# Altium footprint library Wei_PcbLib1.PcbLib: 49 footprints (part 1 of 4)
Each footprint in its own frame and in the unit in brackets; x right, y up, seen from the top. Pads: shape width x height; smd on the part's side, far side on the other; paste and mask are expansions set on the pad; w line width, h text height; cw(c..) or ccw(c..) is an arc to the next point about the centre after c.
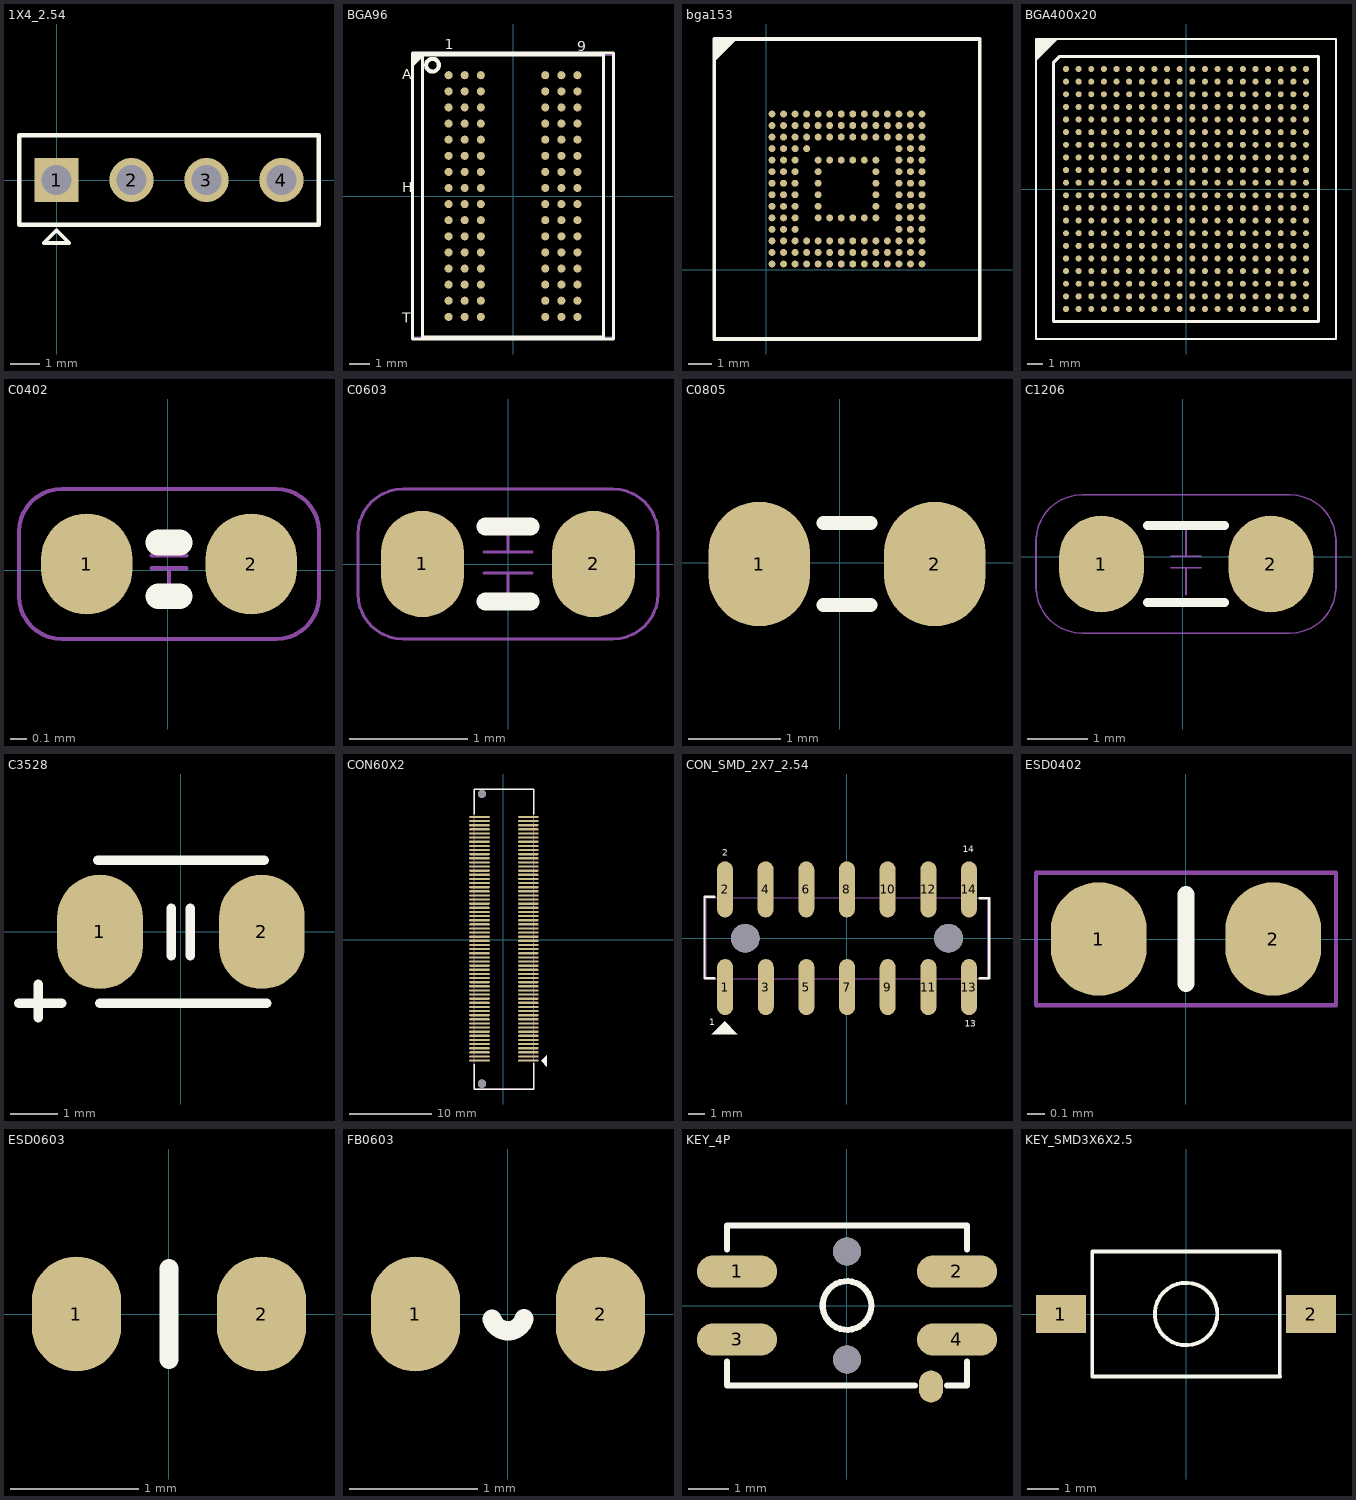
[diagram p0: the footprints below, top view; thin cyan lines are the x and y axes]

## 1X4_2.54 [mm]
pads (4):
  rect 1.5x1.5 hole 1: 1(0,0)
  round 1.5 hole 1: 2(2.54,0) 3(5.08,0) 4(7.62,0)
Top Overlay:
  lines w0.127: -0.432,-2.134 0.432,-2.134 0,-1.702 -0.432,-2.134
  lines w0.152: -1.27,-1.524 8.89,-1.524 8.89,1.524 -1.27,1.524 -1.27,-1.524

## BGA96 [mm]
pads (96):
  round 0.4 smd: A1(-3.2,6) A2(-2.4,6) A3(-1.6,6) A7(1.6,6) A8(2.4,6) A9(3.2,6) B1(-3.2,5.2) B2(-2.4,5.2) B3(-1.6,5.2) B7(1.6,5.2) B8(2.4,5.2) B9(3.2,5.2) C1(-3.2,4.4) C2(-2.4,4.4) C3(-1.6,4.4) C7(1.6,4.4) C8(2.4,4.4) C9(3.2,4.4) D1(-3.2,3.6) D2(-2.4,3.6) D3(-1.6,3.6) D7(1.6,3.6) D8(2.4,3.6) D9(3.2,3.6) E1(-3.2,2.8) E2(-2.4,2.8) E3(-1.6,2.8) E7(1.6,2.8) E8(2.4,2.8) E9(3.2,2.8) F1(-3.2,2) F2(-2.4,2) F3(-1.6,2) F7(1.6,2) F8(2.4,2) F9(3.2,2) G1(-3.2,1.2) G2(-2.4,1.2) G3(-1.6,1.2) G7(1.6,1.2) G8(2.4,1.2) G9(3.2,1.2) H1(-3.2,0.4) H2(-2.4,0.4) H3(-1.6,0.4) H7(1.6,0.4) H8(2.4,0.4) H9(3.2,0.4) J1(-3.2,-0.4) J2(-2.4,-0.4) J3(-1.6,-0.4) J7(1.6,-0.4) J8(2.4,-0.4) J9(3.2,-0.4) K1(-3.2,-1.2) K2(-2.4,-1.2) K3(-1.6,-1.2) K7(1.6,-1.2) K8(2.4,-1.2) K9(3.2,-1.2) L1(-3.2,-2) L2(-2.4,-2) L3(-1.6,-2) L7(1.6,-2) L8(2.4,-2) L9(3.2,-2) M1(-3.2,-2.8) M2(-2.4,-2.8) M3(-1.6,-2.8) M7(1.6,-2.8) M8(2.4,-2.8) M9(3.2,-2.8) N1(-3.2,-3.6) N2(-2.4,-3.6) N3(-1.6,-3.6) N7(1.6,-3.6) N8(2.4,-3.6) N9(3.2,-3.6) P1(-3.2,-4.4) P2(-2.4,-4.4) P3(-1.6,-4.4) P7(1.6,-4.4) P8(2.4,-4.4) P9(3.2,-4.4) R1(-3.2,-5.2) R2(-2.4,-5.2) R3(-1.6,-5.2) R7(1.6,-5.2) R8(2.4,-5.2) R9(3.2,-5.2) T1(-3.2,-6) T2(-2.4,-6) T3(-1.6,-6) T7(1.6,-6) T8(2.4,-6) T9(3.2,-6)
Top Overlay:
  circle w0.203: c-4,6.5 r0.316
  region: -5,7.1 -4.3,7.1 -5,6.4
  lines w0.152: -5,-7.1 -5,7.1 5,7.1 5,-7.1 -5,-7.1 ; -4.5,-7 -4.5,7 4.5,7 4.5,-7 -4.5,-7
  text "A" at -5.5,5.8 h0.5
  text "1" at -3.4,7.3 h0.5
  text "9" at 3.2,7.2 h0.5
  text "T" at -5.5,-6.3 h0.5
  text "H" at -5.5,0.2 h0.5
Mechanical 6:
  text "D9" at 2.96,3.6 h0.3
  text "D8" at 2.16,3.6 h0.3
  text "D7" at 1.36,3.6 h0.3
  text "D3" at -1.84,3.6 h0.3
  text "D2" at -2.64,3.6 h0.3
  text "A2" at -2.64,6 h0.3
  text "D1" at -3.44,3.6 h0.3
  text "C9" at 2.96,4.4 h0.3
  text "C8" at 2.16,4.4 h0.3
  text "C7" at 1.36,4.4 h0.3
  text "C3" at -1.84,4.4 h0.3
  text "C2" at -2.64,4.4 h0.3
  text "C1" at -3.44,4.4 h0.3
  text "B9" at 2.96,5.2 h0.3
  text "B8" at 2.16,5.2 h0.3
  text "B7" at 1.36,5.2 h0.3
  text "A1" at -3.44,6 h0.3
  text "T9" at 2.96,-6 h0.3
  text "T8" at 2.16,-6 h0.3
  text "T7" at 1.36,-6 h0.3
  text "T3" at -1.84,-6 h0.3
  text "T2" at -2.64,-6 h0.3
  text "T1" at -3.44,-6 h0.3
  text "R9" at 2.96,-5.2 h0.3
  text "B3" at -1.84,5.2 h0.3
  text "R8" at 2.16,-5.2 h0.3
  text "R7" at 1.36,-5.2 h0.3
  text "R3" at -1.84,-5.2 h0.3
  text "R2" at -2.64,-5.2 h0.3
  text "R1" at -3.44,-5.2 h0.3
  text "P9" at 2.96,-4.4 h0.3
  text "P8" at 2.16,-4.4 h0.3
  text "P7" at 1.36,-4.4 h0.3
  text "P3" at -1.84,-4.4 h0.3
  text "P2" at -2.64,-4.4 h0.3
  text "B2" at -2.64,5.2 h0.3
  text "P1" at -3.44,-4.4 h0.3
  text "N9" at 2.96,-3.6 h0.3
  text "N8" at 2.16,-3.6 h0.3
  text "N7" at 1.36,-3.6 h0.3
  text "N3" at -1.84,-3.6 h0.3
  text "N2" at -2.64,-3.6 h0.3
  text "N1" at -3.44,-3.6 h0.3
  text "M9" at 2.96,-2.8 h0.3
  text "M8" at 2.16,-2.8 h0.3
  text "M7" at 1.36,-2.8 h0.3
  text "B1" at -3.44,5.2 h0.3
  text "M3" at -1.84,-2.8 h0.3
  text "M2" at -2.64,-2.8 h0.3
  text "M1" at -3.44,-2.8 h0.3
  text "L9" at 2.96,-2 h0.3
  text "L8" at 2.16,-2 h0.3
  text "L7" at 1.36,-2 h0.3
  text "L3" at -1.84,-2 h0.3
  text "L2" at -2.64,-2 h0.3
  text "L1" at -3.44,-2 h0.3
  text "K9" at 2.96,-1.2 h0.3
  text "A9" at 2.96,6 h0.3
  text "K8" at 2.16,-1.2 h0.3
  text "K7" at 1.36,-1.2 h0.3
  text "K3" at -1.84,-1.2 h0.3
  text "K2" at -2.64,-1.2 h0.3
  text "K1" at -3.44,-1.2 h0.3
  text "J9" at 2.96,-0.4 h0.3
  text "J8" at 2.16,-0.4 h0.3
  text "J7" at 1.36,-0.4 h0.3
  text "J3" at -1.84,-0.4 h0.3
  text "J2" at -2.64,-0.4 h0.3
  text "A8" at 2.16,6 h0.3
  text "J1" at -3.44,-0.4 h0.3
  text "H9" at 2.96,0.4 h0.3
  text "H8" at 2.16,0.4 h0.3
  text "H7" at 1.36,0.4 h0.3
  text "H3" at -1.84,0.4 h0.3
  text "H2" at -2.64,0.4 h0.3
  text "H1" at -3.44,0.4 h0.3
  text "G9" at 2.96,1.2 h0.3
  text "G8" at 2.16,1.2 h0.3
  text "G7" at 1.36,1.2 h0.3
  text "A7" at 1.36,6 h0.3
  text "G3" at -1.84,1.2 h0.3
  text "G2" at -2.64,1.2 h0.3
  text "G1" at -3.44,1.2 h0.3
  text "F9" at 2.96,2 h0.3
  text "F8" at 2.16,2 h0.3
  text "F7" at 1.36,2 h0.3
  text "F3" at -1.84,2 h0.3
  text "F2" at -2.64,2 h0.3
  text "F1" at -3.44,2 h0.3
  text "E9" at 2.96,2.8 h0.3
  text "A3" at -1.84,6 h0.3
  text "E8" at 2.16,2.8 h0.3
  text "E7" at 1.36,2.8 h0.3
  text "E3" at -1.84,2.8 h0.3
  text "E2" at -2.64,2.8 h0.3
  text "E1" at -3.44,2.8 h0.3
Mechanical 8:
  lines w0.025: -5,-7 -5,7 5,7 5,-7 -5,-7
  text "U*" at -0.916,0.2 h1.27

## bga153 [mm]
pads (153):
  round 0.3 smd mask+0.05: A1(0.25,6.75) A2(0.75,6.75) A3(1.25,6.75) A4(1.75,6.75) A5(2.25,6.75) A6(2.75,6.75) A7(3.25,6.75) A8(3.75,6.75) A9(4.25,6.75) A10(4.75,6.75) A11(5.25,6.75) A12(5.75,6.75) A13(6.25,6.75) A14(6.75,6.75) B1(0.25,6.25) B2(0.75,6.25) B3(1.25,6.25) B4(1.75,6.25) B5(2.25,6.25) B6(2.75,6.25) B7(3.25,6.25) B8(3.75,6.25) B9(4.25,6.25) B10(4.75,6.25) B11(5.25,6.25) B12(5.75,6.25) B13(6.25,6.25) B14(6.75,6.25) C1(0.25,5.75) C2(0.75,5.75) C3(1.25,5.75) C4(1.75,5.75) C5(2.25,5.75) C6(2.75,5.75) C7(3.25,5.75) C8(3.75,5.75) C9(4.25,5.75) C10(4.75,5.75) C11(5.25,5.75) C12(5.75,5.75) C13(6.25,5.75) C14(6.75,5.75) D1(0.25,5.25) D2(0.75,5.25) D3(1.25,5.25) D4(1.75,5.25) D12(5.75,5.25) D13(6.25,5.25) D14(6.75,5.25) E1(0.25,4.75) E2(0.75,4.75) E3(1.25,4.75) E5(2.25,4.75) E6(2.75,4.75) E7(3.25,4.75) E8(3.75,4.75) E9(4.25,4.75) E10(4.75,4.75) E12(5.75,4.75) E13(6.25,4.75) E14(6.75,4.75) F1(0.25,4.25) F2(0.75,4.25) F3(1.25,4.25) F5(2.25,4.25) F10(4.75,4.25) F12(5.75,4.25) F13(6.25,4.25) F14(6.75,4.25) G1(0.25,3.75) G2(0.75,3.75) G3(1.25,3.75) G5(2.25,3.75) G10(4.75,3.75) G12(5.75,3.75) G13(6.25,3.75) G14(6.75,3.75) H1(0.25,3.25) H2(0.75,3.25) H3(1.25,3.25) H5(2.25,3.25) H10(4.75,3.25) H12(5.75,3.25) H13(6.25,3.25) H14(6.75,3.25) J1(0.25,2.75) J2(0.75,2.75) J3(1.25,2.75) J5(2.25,2.75) J10(4.75,2.75) J12(5.75,2.75) J13(6.25,2.75) J14(6.75,2.75) K1(0.25,2.25) K2(0.75,2.25) K3(1.25,2.25) K5(2.25,2.25) K6(2.75,2.25) K7(3.25,2.25) K8(3.75,2.25) K9(4.25,2.25) K10(4.75,2.25) K12(5.75,2.25) K13(6.25,2.25) K14(6.75,2.25) L1(0.25,1.75) L2(0.75,1.75) L3(1.25,1.75) L12(5.75,1.75) L13(6.25,1.75) L14(6.75,1.75) M1(0.25,1.25) M2(0.75,1.25) M3(1.25,1.25) M4(1.75,1.25) M5(2.25,1.25) M6(2.75,1.25) M7(3.25,1.25) M8(3.75,1.25) M9(4.25,1.25) M10(4.75,1.25) M11(5.25,1.25) M12(5.75,1.25) M13(6.25,1.25) M14(6.75,1.25) N1(0.25,0.75) N2(0.75,0.75) N3(1.25,0.75) N4(1.75,0.75) N5(2.25,0.75) N6(2.75,0.75) N7(3.25,0.75) N8(3.75,0.75) N9(4.25,0.75) N10(4.75,0.75) N11(5.25,0.75) N12(5.75,0.75) N13(6.25,0.75) N14(6.75,0.75) P1(0.25,0.25) P2(0.75,0.25) P3(1.25,0.25) P4(1.75,0.25) P5(2.25,0.25) P6(2.75,0.25) P7(3.25,0.25) P8(3.75,0.25) P9(4.25,0.25) P10(4.75,0.25) P11(5.25,0.25) P12(5.75,0.25) P13(6.25,0.25) P14(6.75,0.25)
Top Overlay:
  region: -1.275,10 -2.25,9.025 -2.25,10
  lines w0.152: -2.25,-3 9.25,-3 9.25,10 -2.25,10 -2.25,-3

## BGA400x20 [mm]
pads (400):
  round 0.381 smd mask+0.05: A1(-7.6,7.6) A2(-6.8,7.6) A3(-6,7.6) A4(-5.2,7.6) A5(-4.4,7.6) A6(-3.6,7.6) A7(-2.8,7.6) A8(-2,7.6) A9(-1.2,7.6) A10(-0.4,7.6) A11(0.4,7.6) A12(1.2,7.6) A13(2,7.6) A14(2.8,7.6) A15(3.6,7.6) A16(4.4,7.6) A17(5.2,7.6) A18(6,7.6) A19(6.8,7.6) A20(7.6,7.6) B1(-7.6,6.8) B2(-6.8,6.8) B3(-6,6.8) B4(-5.2,6.8) B5(-4.4,6.8) B6(-3.6,6.8) B7(-2.8,6.8) B8(-2,6.8) B9(-1.2,6.8) B10(-0.4,6.8) B11(0.4,6.8) B12(1.2,6.8) B13(2,6.8) B14(2.8,6.8) B15(3.6,6.8) B16(4.4,6.8) B17(5.2,6.8) B18(6,6.8) B19(6.8,6.8) B20(7.6,6.8) C1(-7.6,6) C2(-6.8,6) C3(-6,6) C4(-5.2,6) C5(-4.4,6) C6(-3.6,6) C7(-2.8,6) C8(-2,6) C9(-1.2,6) C10(-0.4,6) C11(0.4,6) C12(1.2,6) C13(2,6) C14(2.8,6) C15(3.6,6) C16(4.4,6) C17(5.2,6) C18(6,6) C19(6.8,6) C20(7.6,6) D1(-7.6,5.2) D2(-6.8,5.2) D3(-6,5.2) D4(-5.2,5.2) D5(-4.4,5.2) D6(-3.6,5.2) D7(-2.8,5.2) D8(-2,5.2) D9(-1.2,5.2) D10(-0.4,5.2) D11(0.4,5.2) D12(1.2,5.2) D13(2,5.2) D14(2.8,5.2) D15(3.6,5.2) D16(4.4,5.2) D17(5.2,5.2) D18(6,5.2) D19(6.8,5.2) D20(7.6,5.2) E1(-7.6,4.4) E2(-6.8,4.4) E3(-6,4.4) E4(-5.2,4.4) E5(-4.4,4.4) E6(-3.6,4.4) E7(-2.8,4.4) E8(-2,4.4) E9(-1.2,4.4) E10(-0.4,4.4) E11(0.4,4.4) E12(1.2,4.4) E13(2,4.4) E14(2.8,4.4) E15(3.6,4.4) E16(4.4,4.4) E17(5.2,4.4) E18(6,4.4) E19(6.8,4.4) E20(7.6,4.4) F1(-7.6,3.6) F2(-6.8,3.6) F3(-6,3.6) F4(-5.2,3.6) F5(-4.4,3.6) F6(-3.6,3.6) F7(-2.8,3.6) F8(-2,3.6) F9(-1.2,3.6) F10(-0.4,3.6) F11(0.4,3.6) F12(1.2,3.6) F13(2,3.6) F14(2.8,3.6) F15(3.6,3.6) F16(4.4,3.6) F17(5.2,3.6) F18(6,3.6) F19(6.8,3.6) F20(7.6,3.6) G1(-7.6,2.8) G2(-6.8,2.8) G3(-6,2.8) G4(-5.2,2.8) G5(-4.4,2.8) G6(-3.6,2.8) G7(-2.8,2.8) G8(-2,2.8) G9(-1.2,2.8) G10(-0.4,2.8) G11(0.4,2.8) G12(1.2,2.8) G13(2,2.8) G14(2.8,2.8) G15(3.6,2.8) G16(4.4,2.8) G17(5.2,2.8) G18(6,2.8) G19(6.8,2.8) G20(7.6,2.8) H1(-7.6,2) H2(-6.8,2) H3(-6,2) H4(-5.2,2) H5(-4.4,2) H6(-3.6,2) H7(-2.8,2) H8(-2,2) H9(-1.2,2) H10(-0.4,2) H11(0.4,2) H12(1.2,2) H13(2,2) H14(2.8,2) H15(3.6,2) H16(4.4,2) H17(5.2,2) H18(6,2) H19(6.8,2) H20(7.6,2) J1(-7.6,1.2) J2(-6.8,1.2) J3(-6,1.2) J4(-5.2,1.2) J5(-4.4,1.2) J6(-3.6,1.2) J7(-2.8,1.2) J8(-2,1.2) J9(-1.2,1.2) J10(-0.4,1.2) J11(0.4,1.2) J12(1.2,1.2) J13(2,1.2) J14(2.8,1.2) J15(3.6,1.2) J16(4.4,1.2) J17(5.2,1.2) J18(6,1.2) J19(6.8,1.2) J20(7.6,1.2) K1(-7.6,0.4) K2(-6.8,0.4) K3(-6,0.4) K4(-5.2,0.4) K5(-4.4,0.4) K6(-3.6,0.4) K7(-2.8,0.4) K8(-2,0.4) K9(-1.2,0.4) K10(-0.4,0.4) K11(0.4,0.4) K12(1.2,0.4) K13(2,0.4) K14(2.8,0.4) K15(3.6,0.4) K16(4.4,0.4) K17(5.2,0.4) K18(6,0.4) K19(6.8,0.4) K20(7.6,0.4) L1(-7.6,-0.4) L2(-6.8,-0.4) L3(-6,-0.4) L4(-5.2,-0.4) L5(-4.4,-0.4) L6(-3.6,-0.4) L7(-2.8,-0.4) L8(-2,-0.4) L9(-1.2,-0.4) L10(-0.4,-0.4) L11(0.4,-0.4) L12(1.2,-0.4) L13(2,-0.4) L14(2.8,-0.4) L15(3.6,-0.4) L16(4.4,-0.4) L17(5.2,-0.4) L18(6,-0.4) L19(6.8,-0.4) L20(7.6,-0.4) M1(-7.6,-1.2) M2(-6.8,-1.2) M3(-6,-1.2) M4(-5.2,-1.2) M5(-4.4,-1.2) M6(-3.6,-1.2) M7(-2.8,-1.2) M8(-2,-1.2) M9(-1.2,-1.2) M10(-0.4,-1.2) M11(0.4,-1.2) M12(1.2,-1.2) M13(2,-1.2) M14(2.8,-1.2) M15(3.6,-1.2) M16(4.4,-1.2) M17(5.2,-1.2) M18(6,-1.2) M19(6.8,-1.2) M20(7.6,-1.2) N1(-7.6,-2) N2(-6.8,-2) N3(-6,-2) N4(-5.2,-2) N5(-4.4,-2) N6(-3.6,-2) N7(-2.8,-2) N8(-2,-2) N9(-1.2,-2) N10(-0.4,-2) N11(0.4,-2) N12(1.2,-2) N13(2,-2) N14(2.8,-2) N15(3.6,-2) N16(4.4,-2) N17(5.2,-2) N18(6,-2) N19(6.8,-2) N20(7.6,-2) P1(-7.6,-2.8) P2(-6.8,-2.8) P3(-6,-2.8) P4(-5.2,-2.8) P5(-4.4,-2.8) P6(-3.6,-2.8) P7(-2.8,-2.8) P8(-2,-2.8) P9(-1.2,-2.8) P10(-0.4,-2.8) P11(0.4,-2.8) P12(1.2,-2.8) P13(2,-2.8) P14(2.8,-2.8) P15(3.6,-2.8) P16(4.4,-2.8) P17(5.2,-2.8) P18(6,-2.8) P19(6.8,-2.8) P20(7.6,-2.8) R1(-7.6,-3.6) R2(-6.8,-3.6) R3(-6,-3.6) R4(-5.2,-3.6) R5(-4.4,-3.6) R6(-3.6,-3.6) R7(-2.8,-3.6) R8(-2,-3.6) R9(-1.2,-3.6) R10(-0.4,-3.6) R11(0.4,-3.6) R12(1.2,-3.6) R13(2,-3.6) R14(2.8,-3.6) R15(3.6,-3.6) R16(4.4,-3.6) R17(5.2,-3.6) R18(6,-3.6) R19(6.8,-3.6) R20(7.6,-3.6) T1(-7.6,-4.4) T2(-6.8,-4.4) T3(-6,-4.4) T4(-5.2,-4.4) T5(-4.4,-4.4) T6(-3.6,-4.4) T7(-2.8,-4.4) T8(-2,-4.4) T9(-1.2,-4.4) T10(-0.4,-4.4) T11(0.4,-4.4) T12(1.2,-4.4) T13(2,-4.4) T14(2.8,-4.4) T15(3.6,-4.4) T16(4.4,-4.4) T17(5.2,-4.4) T18(6,-4.4) T19(6.8,-4.4) T20(7.6,-4.4) U1(-7.6,-5.2) U2(-6.8,-5.2) U3(-6,-5.2) U4(-5.2,-5.2) U5(-4.4,-5.2) U6(-3.6,-5.2) U7(-2.8,-5.2) U8(-2,-5.2) U9(-1.2,-5.2) U10(-0.4,-5.2) U11(0.4,-5.2) U12(1.2,-5.2) U13(2,-5.2) U14(2.8,-5.2) U15(3.6,-5.2) U16(4.4,-5.2) U17(5.2,-5.2) U18(6,-5.2) U19(6.8,-5.2) U20(7.6,-5.2) V1(-7.6,-6) V2(-6.8,-6) V3(-6,-6) V4(-5.2,-6) V5(-4.4,-6) V6(-3.6,-6) V7(-2.8,-6) V8(-2,-6) V9(-1.2,-6) V10(-0.4,-6) V11(0.4,-6) V12(1.2,-6) V13(2,-6) V14(2.8,-6) V15(3.6,-6) V16(4.4,-6) V17(5.2,-6) V18(6,-6) V19(6.8,-6) V20(7.6,-6) W1(-7.6,-6.8) W2(-6.8,-6.8) W3(-6,-6.8) W4(-5.2,-6.8) W5(-4.4,-6.8) W6(-3.6,-6.8) W7(-2.8,-6.8) W8(-2,-6.8) W9(-1.2,-6.8) W10(-0.4,-6.8) W11(0.4,-6.8) W12(1.2,-6.8) W13(2,-6.8) W14(2.8,-6.8) W15(3.6,-6.8) W16(4.4,-6.8) W17(5.2,-6.8) W18(6,-6.8) W19(6.8,-6.8) W20(7.6,-6.8) Y1(-7.6,-7.6) Y2(-6.8,-7.6) Y3(-6,-7.6) Y4(-5.2,-7.6) Y5(-4.4,-7.6) Y6(-3.6,-7.6) Y7(-2.8,-7.6) Y8(-2,-7.6) Y9(-1.2,-7.6) Y10(-0.4,-7.6) Y11(0.4,-7.6) Y12(1.2,-7.6) Y13(2,-7.6) Y14(2.8,-7.6) Y15(3.6,-7.6) Y16(4.4,-7.6) Y17(5.2,-7.6) Y18(6,-7.6) Y19(6.8,-7.6) Y20(7.6,-7.6)
Top Overlay:
  region: -9.5,9.5 -8.2,9.5 -9.5,8.2
  lines w0.15: -9.5,8 -9.5,8.2 -8.2,9.5 ; -9.5,8.4 -9.5,9.5 -8.4,9.5 ; -9.5,8.5 -9.5,1.5 -9.5,-9.5 9.5,-9.5 9.5,9.5 -8.5,9.5 ; -9.1,9.5 -9.5,9.1 -9.5,8.8 -8.767,9.466
  lines w0.2: -8.4,-8.4 -8.4,8 -8,8.4 8.4,8.4 8.4,-8.4 -8.4,-8.4

## C0402 [mm]
pads (2):
  oval 0.54x0.6 smd: 1(-0.479,0.036) 2(0.495,0.036)
Top Overlay:
  lines w0.152: -0.055,-0.154 0.072,-0.154 ; -0.055,0.163 0.072,0.163
Mechanical 8:
  lines w0.025: -0.094,0.011 0.11,0.011 ; -0.094,0.087 0.11,0.087 ; 0.008,-0.116 0.008,0.011 ; 0.008,0.087 0.008,0.214 ; -0.881,-0.154 ccw(c-0.627,-0.154) -0.627,-0.408 0.643,-0.408 ccw(c0.643,-0.154) 0.897,-0.154 0.897,0.227 ccw(c0.643,0.227) 0.643,0.481 -0.627,0.481 ccw(c-0.627,0.227) -0.881,0.227 -0.881,-0.154

## C0603 [mm]
pads (2):
  oval 0.7x0.9 smd: 1(-0.724,0) 2(0.724,0)
Top Overlay:
  lines w0.152: -0.191,-0.317 0.191,-0.317 ; -0.191,0.318 0.191,0.318
Mechanical 8:
  lines w0.025: -0.203,-0.076 0.203,-0.076 ; -0.203,0.102 0.203,0.102 ; 0,-0.356 0,-0.076 ; 0,0.102 0,0.381 ; -1.27,-0.254 ccw(c-0.889,-0.254) -0.889,-0.635 0.889,-0.635 ccw(c0.889,-0.254) 1.27,-0.254 1.27,0.254 ccw(c0.889,0.254) 0.889,0.635 -0.889,0.635 ccw(c-0.889,0.254) -1.27,0.254 -1.27,-0.254

## C0805 [mm]
pads (2):
  oval 1.1x1.35 smd: 1(-0.872,-0.015) 2(1.034,-0.015)
Top Overlay:
  lines w0.152: -0.173,-0.46 0.335,-0.46 ; -0.173,0.429 0.335,0.429

## C1206 [mm]
pads (2):
  oval 1.4x1.6 smd: 1(-1.343,-0.123) 2(1.457,-0.123)
Top Overlay:
  lines w0.152: -0.581,-0.758 0.689,-0.758 ; -0.581,0.512 0.689,0.512
Mechanical 8:
  lines w0.025: -0.2,-0.186 0.308,-0.186 ; -0.2,0.004 0.308,0.004 ; 0.054,-0.631 0.054,-0.186 ; -2.422,-0.504 ccw(c-1.66,-0.504) -1.66,-1.266 1.769,-1.266 ccw(c1.769,-0.504) 2.531,-0.504 2.531,0.258 ccw(c1.769,0.258) 1.769,1.02 -1.66,1.02 ccw(c-1.66,0.258) -2.422,0.258 -2.422,-0.504 ; 0.054,0.004 0.054,0.449 0.054,0.004

## C3528 [mm]
pads (2):
  oval 1.8x2.4 smd: 1(-1.7,0) 2(1.7,0)
Top Overlay:
  lines w0.2: -3.4,-1.5 -2.5,-1.5 -3,-1.5 ; -3,-1.8 -3,-1.1 ; -1.75,1.5 1.75,1.5 ; -1.7,-1.5 1.8,-1.5 ; -0.2,-0.5 -0.2,0.5 ; 0.2,-0.5 0.2,0.5

## CON60X2 [mm]
pads (122):
  oval 2.5x0.27 smd: 1(3.064,-14.661) 2(-2.864,-14.661) 3(3.064,-14.161) 4(-2.864,-14.161) 5(3.064,-13.661) 6(-2.864,-13.661) 7(3.064,-13.16) 8(-2.864,-13.16) 9(3.064,-12.66) 10(-2.864,-12.66) 11(3.064,-12.159) 12(-2.864,-12.159) 13(3.064,-11.659) 14(-2.864,-11.659) 15(3.064,-11.159) 16(-2.864,-11.159) 17(3.064,-10.658) 18(-2.864,-10.658) 19(3.064,-10.158) 20(-2.864,-10.158) 21(3.064,-9.658) 22(-2.864,-9.658) 23(3.064,-9.157) 24(-2.864,-9.157) 25(3.064,-8.657) 26(-2.864,-8.657) 27(3.064,-8.156) 28(-2.864,-8.156) 29(3.064,-7.656) 30(-2.864,-7.656) 31(3.064,-7.156) 32(-2.864,-7.156) 33(3.064,-6.655) 34(-2.864,-6.655) 35(3.064,-6.155) 36(-2.864,-6.155) 37(3.064,-5.655) 38(-2.864,-5.655) 39(3.064,-5.154) 40(-2.864,-5.154) 41(3.064,-4.654) 42(-2.864,-4.654) 43(3.064,-4.153) 44(-2.864,-4.153) 45(3.064,-3.653) 46(-2.864,-3.653) 47(3.064,-3.153) 48(-2.864,-3.153) 49(3.064,-2.652) 50(-2.864,-2.652) 51(3.064,-2.152) 52(-2.864,-2.152) 53(3.064,-1.651) 54(-2.864,-1.651) 55(3.064,-1.151) 56(-2.864,-1.151) 57(3.064,-0.651) 58(-2.864,-0.651) 59(3.064,-0.15) 60(-2.864,-0.15) 61(3.064,0.35) 62(-2.864,0.35) 63(3.064,0.85) 64(-2.864,0.85) 65(3.064,1.351) 66(-2.864,1.351) 67(3.064,1.851) 68(-2.864,1.851) 69(3.064,2.352) 70(-2.864,2.352) 71(3.064,2.852) 72(-2.864,2.852) 73(3.064,3.352) 74(-2.864,3.352) 75(3.064,3.853) 76(-2.864,3.853) 77(3.064,4.353) 78(-2.864,4.353) 79(3.064,4.853) 80(-2.864,4.853) 81(3.064,5.354) 82(-2.864,5.354) 83(3.064,5.854) 84(-2.864,5.854) 85(3.064,6.355) 86(-2.864,6.355) 87(3.064,6.855) 88(-2.864,6.855) 89(3.064,7.355) 90(-2.864,7.355) 91(3.064,7.856) 92(-2.864,7.856) 93(3.064,8.356) 94(-2.864,8.356) 95(3.064,8.856) 96(-2.864,8.856) 97(3.064,9.357) 98(-2.864,9.357) 99(3.064,9.857) 100(-2.864,9.857) 101(3.064,10.358) 102(-2.864,10.358) 103(3.064,10.858) 104(-2.864,10.858) 105(3.064,11.358) 106(-2.864,11.358) 107(3.064,11.859) 108(-2.864,11.859) 109(3.064,12.359) 110(-2.864,12.359) 111(3.064,12.86) 112(-2.864,12.86) 113(3.064,13.36) 114(-2.864,13.36) 115(3.064,13.86) 116(-2.864,13.86) 117(3.064,14.361) 118(-2.864,14.361) 119(3.064,14.861) 120(-2.864,14.861)
  round 1 / inner round 1.524 / far side round 1 hole 1: ""(-2.566,-17.459) ""(-2.566,17.659)
Top Overlay:
  region: 4.6,-14.7 5.3,-15.4 5.3,-14
  lines w0.152: -3.5,-15.1 -3.5,-18.1 3.7,-18.1 3.7,-15 ; -3.5,15.2 -3.5,18.2 3.7,18.2 3.7,15.2
Mechanical 6:
Mechanical 8:
  lines w0.025: -3.52,-18.05 -3.52,18.25 3.72,18.25 3.72,-18.05 -3.52,-18.05

## CON_SMD_2X7_2.54 [mm]
pads (16):
  oval 1x3.5 smd: 1(-7.615,-3.05) 2(-7.625,3.05) 3(-5.075,-3.05) 4(-5.085,3.05) 5(-2.535,-3.05) 6(-2.545,3.05) 7(0.005,-3.05) 8(-0.005,3.05) 9(2.545,-3.05) 10(2.535,3.05) 11(5.085,-3.05) 12(5.085,3.05) 13(7.625,-3.05) 14(7.625,3.05)
  round 1.8 / inner round 1.524 / far side round 1.8 hole 1.8: ""(-6.355,0) ""(6.345,0)
Top Overlay:
  region: -7.655,-5.2 -8.455,-6 -6.855,-6
  lines w0.152: -8.305,-2.5 -8.905,-2.5 -8.905,2.6 -8.305,2.6 ; 8.295,-2.5 8.895,-2.5 8.895,2.5 8.295,2.5
  text "2" at -7.805,5 h0.7
  text "14" at 7.244,5.205 h0.7
  text "13" at 7.345,-5.7 h0.7
  text "1" at -8.605,-5.6 h0.7
Mechanical 6:
Mechanical 8:
  lines w0.025: -8.795,-2.54 8.785,-2.54 8.785,2.54 -8.795,2.54 -8.795,-2.54

## ESD0402 [mm]
pads (2):
  oval 0.55x0.65 smd: 1(-0.5,0) 2(0.5,0)
Top Overlay:
  lines w0.1: 0,-0.254 0,0.254
Mechanical 8:
  lines w0.025: -0.86,-0.38 -0.86,0.38 0.86,0.38 0.86,-0.38 -0.86,-0.38

## ESD0603 [mm]
pads (2):
  oval 0.7x0.9 smd: 1(-0.724,0) 2(0.724,0)
Top Overlay:
  lines w0.152: 0,-0.356 0,0.356

## FB0603 [mm]
pads (2):
  oval 0.7x0.9 smd: 1(-0.724,0) 2(0.724,0)
Top Overlay:
  lines w0.15: -0.125,-0.041 ccw(c0,0) 0.126,-0.038

## KEY_4P [mm]
pads (7):
  oval 2x0.8 smd: 1(-2.75,0.85) 2(2.75,0.85) 3(-2.75,-0.85) 4(2.75,-0.85)
  round 0.7 / inner round 1.524 / far side round 0.7 hole 0.7: ""(0,-1.35)
  round 0.7 hole 0.7: ""(0,1.35)
  oval 0.6x0.8 smd: ""(2.1,-2.025)
Top Overlay:
  circle w0.152: c0,0 r0.608
  lines w0.152: -3,-1.4 -3,-2 1.7,-2 ; -3,1.4 -3,2 3,2 3,1.4 ; 2.5,-2 3,-2 3,-1.4
Mechanical 6:

## KEY_SMD3X6X2.5 [mm]
pads (2):
  rect 1.6x1.2 smd: 1(-4,0) 2(4,0)
Top Overlay:
  circle w0.127: c0,0 r1
  lines w0.127: -3,-2 -3,2 3,2 3,-1.996 3.004,-2 -3,-2